# Altium footprint library Modules_old.PcbLib: 4 footprints
Each footprint in its own frame and in the unit in brackets; x right, y up, seen from the top. Pads: shape width x height; smd on the part's side, far side on the other; paste and mask are expansions set on the pad; w line width, h text height; cw(c..) or ccw(c..) is an arc to the next point about the centre after c.
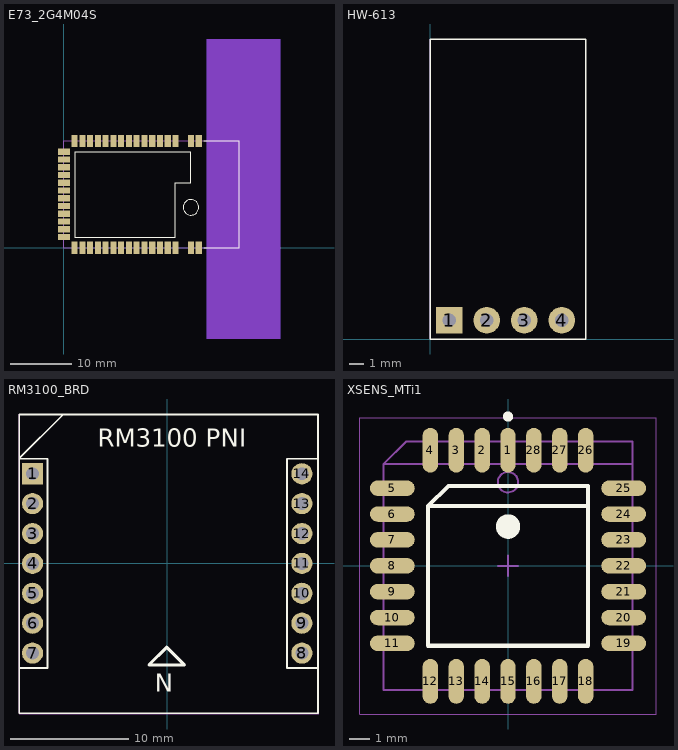
[diagram p0: the footprints below, top view; thin cyan lines are the x and y axes]

## E73_2G4M04S [mm]
height 3
pads (44):
  rect 1x2 smd: 1(22.065,17.5) 2(20.795,17.5) 3(18.255,17.5) 4(16.985,17.5) 5(15.715,17.5) 6(14.445,17.5) 7(13.175,17.5) 8(11.905,17.5) 9(10.635,17.5) 10(9.365,17.5) 11(8.095,17.5) 12(6.825,17.5) 13(5.555,17.5) 14(4.285,17.5) 15(3.015,17.5) 16(1.745,17.5) 29(1.745,0) 30(3.015,0) 31(4.285,0) 32(5.555,0) 33(6.825,0) 34(8.095,0) 35(9.365,0) 36(10.635,0) 37(11.905,0) 38(13.175,0) 39(14.445,0) 40(15.715,0) 41(16.985,0) 42(18.255,0) 43(20.795,0) 44(22.065,0)
  rect 2x1 smd: 17(0,15.735) 18(0,14.465) 19(0,13.195) 20(0,11.925) 21(0,10.655) 22(0,9.385) 23(0,8.115) 24(0,6.845) 25(0,5.575) 26(0,4.305) 27(0,3.035) 28(0,1.765)
Top Layer keep-out:
  region: 23.39,-14.92 23.39,34.18 35.39,34.18 35.39,-14.92
Bottom Layer keep-out:
  region: 23.39,-14.92 23.39,34.18 35.39,34.18 35.39,-14.92
Top Overlay:
  circle w0.2: c20.795,6.63 r1.27
  lines w0.2: 22.86,0 28.7,0 28.7,17.5 28.674,17.526 22.86,17.526 ; 1.745,15.735 20.795,15.735 20.795,10.655 18.255,10.655 18.255,1.765 1.765,1.765 1.745,15.735
Mechanical 15 (Mech15):
  lines w0: 0,0 0,17.5 28.7,17.5 28.7,0 0,0
3D body: height 3, standoff 0, extent 0,0 28.7,17.526

## HW-613 [mm] "24V 3A Buck DC-DC Module"
height 5.7
pads (4):
  rect 1.8x1.8 hole 0.9: 1(1.27,1.27)
  round 1.8 hole 0.9: 2(3.81,1.27) 3(6.35,1.27) 4(8.89,1.27)
Top Overlay:
  lines w0.1: 0,0 10.5,0 10.5,20.3 0,20.3 0,0
Mechanical 15 (Mech15):
  lines w0.013: 0,0 10.5,0 10.5,20.3 0,20.3 0,0
3D body: height 2.8, standoff 0, extent 0,0 10.5,20.3
3D body: height 5.7, standoff 0, extent 0,2.7 10.5,15.5

## RM3100_BRD [mm] "RM3100 Breakout Board"
pads (14):
  rect 1.8x1.8 hole 1.1: 1(-11.45,7.62)
  round 1.8 hole 1.1: 2(-11.45,5.08) 3(-11.45,2.54) 4(-11.45,0) 5(-11.45,-2.54) 6(-11.45,-5.08) 7(-11.45,-7.62) 8(11.45,-7.62) 9(11.45,-5.08) 10(11.45,-2.54) 11(11.45,0) 12(11.45,2.54) 13(11.45,5.08) 14(11.45,7.62)
Top Overlay:
  lines w0.15: -12.575,-8.89 -10.18,-8.89 -10.18,8.89 -12.575,8.89 -12.575,8.925 ; -12.575,8.907 -12.575,8.925 ; -8.9,12.6 -12.575,8.925 ; 12.825,-8.89 10.18,-8.89 10.18,8.89 12.825,8.89 ; -12.575,-12.745 12.825,-12.745 12.825,12.655 -12.575,12.655 -12.575,-12.745
  lines w0.254: -1.55,-8.62 1.45,-8.62 -0.05,-7.12 -1.55,-8.62
  text "RM3100 PNI" at -5.9,9.9 h1.52
  text "N" at 0.5,-9.37 h1.52
Mechanical 13:
  lines w0.013: -12.6,-12.8 12.9,-12.8 12.9,12.7 -12.6,12.7 -12.6,-12.8
3D body "PLS-7_(DS1021_CONNFLY).stp": height 8.7, standoff -3, extent -12.7,-8.89 -10.16,8.89
3D body "PLS-7_(DS1021_CONNFLY).stp": height 8.7, standoff -3, extent 10.16,-8.89 12.7,8.89
3D body: height 1.27, standoff -1.27, extent -12.7,-12.7 -12.7,-12.7
3D body: height 4, standoff 2.5, extent -12.6,-12.8 12.9,12.7
3D body: height 10, standoff 3.8, extent -5,-4.2 4.6,4.8
3D body: height 1.27, standoff -1.27, extent -12.7,-12.7 -12.7,-12.7

## XSENS_MTi1 [mm] "Leaded Chip Carrier, 28-Leads, Body 13,20x13,20mm, Pitch 1,270mm, IPC Medium Density"
height 2.6
pads (28):
  oval 0.76x2.2 smd: 1(0,5.675) 2(-1.27,5.675) 3(-2.54,5.675) 4(-3.81,5.675) 12(-3.81,-5.675) 13(-2.54,-5.675) 14(-1.27,-5.675) 15(0,-5.675) 16(1.27,-5.675) 17(2.54,-5.675) 18(3.81,-5.675) 26(3.81,5.675) 27(2.54,5.675) 28(1.27,5.675)
  oval 2.2x0.76 smd: 5(-5.675,3.81) 6(-5.675,2.54) 7(-5.675,1.27) 8(-5.675,0) 9(-5.675,-1.27) 10(-5.675,-2.54) 11(-5.675,-3.81) 19(5.675,-3.81) 20(5.675,-2.54) 21(5.675,-1.27) 22(5.675,0) 23(5.675,1.27) 24(5.675,2.54) 25(5.675,3.81)
Top Overlay:
  circle w0.25: c0,7.325 r0.125
  circle w0.6: c0,1.925 r0.3
  lines w0.2: 3.925,2.925 -3.925,2.925 ; -3.925,2.925 -2.925,3.925 3.925,3.925 3.925,-3.925 -3.925,-3.925 -3.925,2.925
Mechanical 13:
  circle w0.1: c0,4.1 r0.5
  lines w0.1: 6.1,5 -6.1,5 ; -6.1,5 -6.1,-6.1 6.1,-6.1 6.1,6.1 -5,6.1 -6.1,5
Mechanical 15 (Mech15):
  lines w0.05: -7.275,-7.275 -7.275,7.275 7.275,7.275 7.275,-7.275 -7.275,-7.275
  lines w0.1: -0.5,0 0.5,0 ; 0,-0.5 0,0.5
3D body: height 2.6, standoff 0.01, extent -6.1,-6.1 6.1,6.1